# Altium footprint library Fake_ACS_Board_Footprints.PcbLib: 14 footprints
Each footprint in its own frame and in the unit in brackets; x right, y up, seen from the top. Pads: shape width x height; smd on the part's side, far side on the other; paste and mask are expansions set on the pad; w line width, h text height; cw(c..) or ccw(c..) is an arc to the next point about the centre after c.
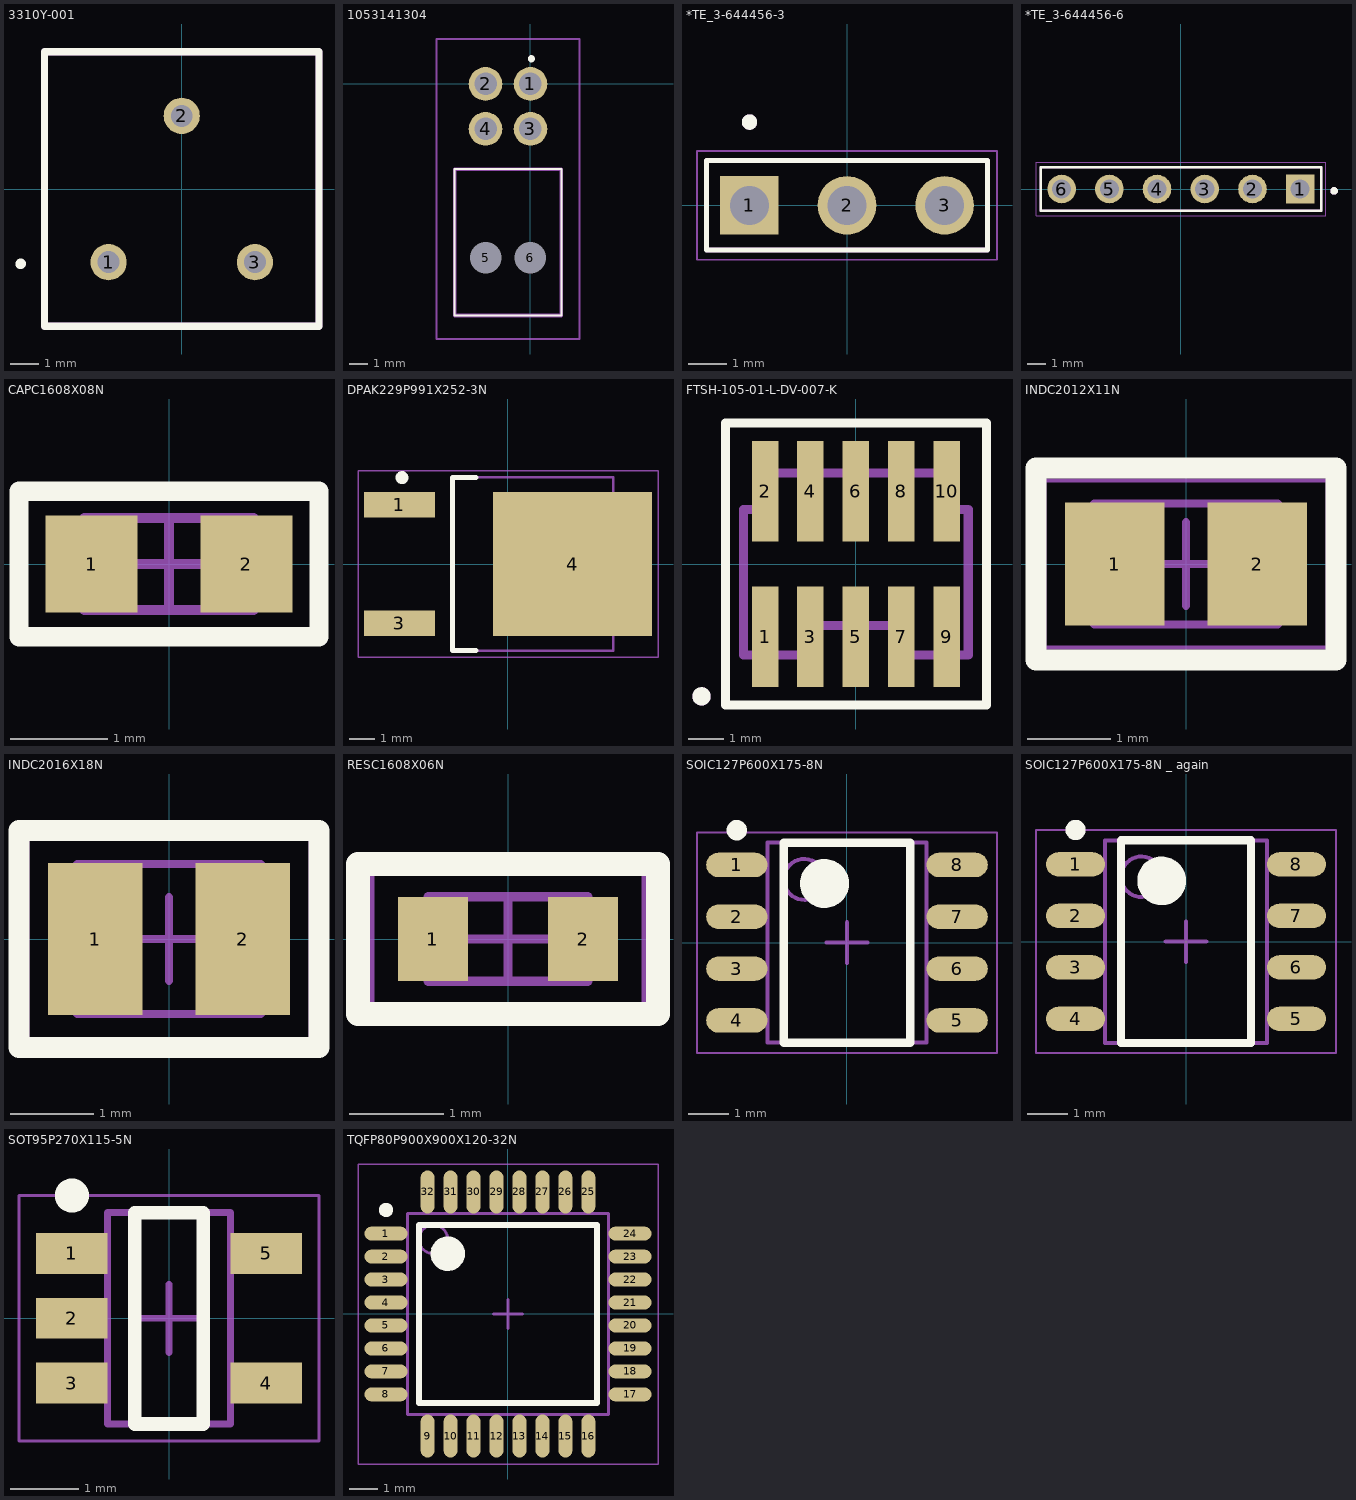
[diagram p0: the footprints below, top view; thin cyan lines are the x and y axes]

## 3310Y-001 [mm]
pads (3):
  round 1.26 hole 0.76: 1(-2.54,-2.54) 2(0,2.54) 3(2.54,-2.54)
Top Overlay:
  circle w0.25: c-5.592,-2.598 r0.058
  lines w0.25: -4.765,-4.765 4.765,-4.765 4.765,4.765 -4.765,4.765 -4.765,-4.765
Mechanical 13:
  lines w0.25: -4.765,-4.765 -4.765,4.765 4.765,4.765 4.765,-4.765 -4.765,-4.765
3D body "3310Y-001-104L.stp": height 16.8, standoff -6.38, extent -4.793,-5.086 4.733,4.439

## 1053141304 [mm]
pads (6):
  round 1.875 hole 1.25: 1(0,0) 2(-2.5,0) 3(0,-2.5) 4(-2.5,-2.5)
  round 0.875 hole 1.75: 5(-2.5,-9.68) 6(0,-9.68)
Top Overlay:
  lines w0.1: -4.22,-12.88 1.72,-12.88 1.72,-4.74 0.235,-4.74 -2.735,-4.74 -4.22,-4.74 -4.22,-12.88
  lines w0.2: -0.05,1.4 cw(c0.05,1.4) 0.15,1.4 cw(c0.05,1.4) -0.05,1.4
Mechanical 13:
  lines w0.2: -4.22,-12.88 1.72,-12.88 1.72,-4.74 -4.22,-4.74 -4.22,-12.88
Mechanical 15:
  lines w0.1: -5.22,-14.19 2.72,-14.19 2.72,2.5 -5.22,2.5 -5.22,-14.19
3D body "1053141304.stp": height 9.35, standoff -2.99, extent -4.24,-14.326 1.7,0.332

## *TE_3-644456-3 [mil]
pads (3):
  rect 60x60 hole 40: 1(-100,0)
  round 60 hole 40: 2(0,0) 3(100,0)
Top Overlay:
  circle w7.87: c-100,85.35 r3.94
  lines w5: -143.98,-45.98 -143.98,45.98 143.98,45.98 143.98,-45.98 -143.98,-45.98
Mechanical 4:
  circle w7.87: c-100,85.35 r3.94
  circle w7.87: c-100,85.35 r3.94
  lines w5: -143.98,-45.98 -143.98,45.98 ; -143.98,-45.98 143.98,-45.98 ; -143.98,-45.98 -143.98,45.98 ; -143.98,-45.98 143.98,-45.98 ; -143.98,45.98 143.98,45.98 ; -143.98,45.98 143.98,45.98 ; 143.98,-45.98 143.98,45.98 ; 143.98,-45.98 143.98,45.98
Mechanical 16:
  lines w1.97: -153.82,-55.83 -153.82,55.83 153.82,55.83 153.82,-55.83 -153.82,-55.83
3D body "c-3-644456-3-j-3d.stp": height 395, standoff -110, extent -144.09,-46 144.1,46

## *TE_3-644456-6 [mil]
pads (6):
  rect 60x60 hole 40: 1(250,0)
  round 60 hole 40: 2(150,0) 3(50,0) 4(-50,0) 5(-150,0) 6(-250,0)
Top Overlay:
  circle w7.87: c321.26,-4.02 r3.94
  lines w5: -293.98,-45.98 -293.98,45.98 293.98,45.98 293.98,-45.98 -293.98,-45.98
Mechanical 4:
  circle w7.87: c321.26,-4.02 r3.94
  circle w7.87: c321.26,-4.02 r3.94
  lines w5: -293.98,-45.98 -293.98,45.98 ; -293.98,-45.98 293.98,-45.98 ; -293.98,-45.98 -293.98,45.98 ; -293.98,-45.98 293.98,-45.98 ; -293.98,45.98 293.98,45.98 ; -293.98,45.98 293.98,45.98 ; 293.98,-45.98 293.98,45.98 ; 293.98,-45.98 293.98,45.98
Mechanical 16:
  lines w1.97: -303.82,-55.83 -303.82,55.83 303.82,55.83 303.82,-55.83 -303.82,-55.83
3D body: height 110, standoff -395, extent -41.34,177.17 -41.34,177.17
3D body "c-3-644456-6-j-3d.stp": height 395, standoff -110, extent -293.31,-48.36 294.89,43.64

## CAPC1608X08N [mm] "Chip Capacitor, 2-Leads, Body 1.60x0.80mm, IPC Medium Density"
height 0.8
pads (2):
  rect 0.95x1 smd: 1(-0.8,0) 2(0.8,0)
Top Overlay:
  lines w0.2: -1.55,-0.75 1.55,-0.75 1.55,0.75 -1.55,0.75 -1.55,-0.75
Top Assembly:
  lines w0.1: -0.875,-0.475 0.875,-0.475 0.875,0.475 -0.875,0.475 -0.875,-0.475
Mechanical 15:
  lines w0.05: -1.55,-0.75 1.55,-0.75 1.55,0.75 -1.55,0.75 -1.55,-0.75
  lines w0.1: -0.475,0 0.475,0 ; 0,-0.475 0,0.475
3D body: height 0.8, standoff 0, extent 0.495,-0.475 0.875,0.475
3D body: height 0.8, standoff 0, extent -0.875,-0.475 -0.495,0.475
3D body: height 0.8, standoff 0, extent -0.495,-0.475 0.495,0.475

## DPAK229P991X252-3N [mm] "D-PAK, 3-Pads, Body 6.21x6.71mm (max), IPC Medium Density"
height 2.52
pads (3):
  rect 2.75x1 smd: 1(-4.2,2.29) 3(-4.2,-2.29)
  rect 6.15x5.55 smd: 4(2.5,0)
Top Overlay:
  circle w0.25: c-4.1,3.34 r0.125
  lines w0.2: -1.25,-3.35 -2.15,-3.35 -2.15,3.35 -1.25,3.35
Top Assembly:
  lines w0.1: -2.15,-3.35 -2.15,3.35 4.07,3.35 4.07,-3.35 -2.15,-3.35
Mechanical 15:
  lines w0.05: -5.8,-3.6 -5.8,3.6 5.8,3.6 5.8,-3.6 -5.8,-3.6
  lines w0.1: -0.5,0 0.5,0 ; 0,-0.5 0,0.5
3D body: height 2.52, standoff 0.46, extent -2.15,-3.35 4.07,3.35

## FTSH-105-01-L-DV-007-K [mm]
pads (10):
  rect 0.74x2.8 smd paste-0.076 mask+0.085: 1(-2.54,-2.03)
  rect 0.74x2.8 smd paste-0.076 mask+0.076: 2(-2.54,2.03) 3(-1.27,-2.03) 4(-1.27,2.03) 5(0,-2.03) 6(0,2.03) 7(1.27,-2.03) 8(1.27,2.03) 9(2.54,-2.03) 10(2.54,2.03)
Top Overlay:
  circle w0.254: c-4.313,-3.696 r0.127
  lines w0.254: -3.645,-3.937 -3.645,3.937 3.645,3.937 3.645,-3.937 -3.645,-3.937
Top Assembly:
  circle w0.254: c-4.313,-3.7 r0.127
  lines w0.254: -3.137,-2.54 -1.079,-2.54 -1.079,-1.714 1.079,-1.714 1.079,-2.54 3.137,-2.54 3.137,1.524 2.54,1.524 2.54,2.54 -2.54,2.54 -2.54,1.524 -3.137,1.524 -3.137,-2.54
3D body "FTSH-105-01-L-DV-007-K.stp": height 6.11, standoff -0.01, extent -3.175,-2.921 3.175,2.921

## INDC2012X11N [mm] "Chip Inductor, 2-Leads, Body 2.00x1.25mm, IPC Medium Density"
height 1.1
pads (2):
  rect 1.19x1.47 smd: 1(-0.855,0) 2(0.855,0)
Top Overlay:
  lines w0.254: -1.8,-1.15 1.8,-1.15 1.8,1.15 -1.8,1.15 -1.8,-1.15
Top Assembly:
  lines w0.1: -1.1,-0.725 -1.1,0.725 1.1,0.725 1.1,-0.725 -1.1,-0.725
Mechanical 15:
  lines w0.05: -1.7,-1 -1.7,1 1.7,1 1.7,-1 -1.7,-1
  lines w0.1: -0.5,0 0.5,0 ; 0,-0.5 0,0.5
3D body: height 1.1, standoff 0, extent -0.6,-0.725 0.6,0.725
3D body: height 1.1, standoff 0, extent -1.1,-0.725 -0.6,0.725
3D body: height 1.1, standoff 0, extent 0.6,-0.725 1.1,0.725

## INDC2016X18N [mm] "Chip Inductor, 2-Leads, Body 2.00x1.60mm, IPC Medium Density"
height 1.8
pads (2):
  rect 1.13x1.82 smd: 1(-0.885,0) 2(0.885,0)
Top Overlay:
  lines w0.254: -1.8,-1.3 1.8,-1.3 1.8,1.3 -1.8,1.3 -1.8,-1.3
Top Assembly:
  lines w0.1: -1.1,-0.9 1.1,-0.9 1.1,0.9 -1.1,0.9 -1.1,-0.9
Mechanical 15:
  lines w0.05: -1.7,-1.2 1.7,-1.2 1.7,1.2 -1.7,1.2 -1.7,-1.2
  lines w0.1: -0.5,0 0.5,0 ; 0,-0.5 0,0.5
3D body: height 1.8, standoff 0, extent 0.6,-0.9 1.1,0.9
3D body: height 1.8, standoff 0, extent -1.1,-0.9 -0.6,0.9
3D body: height 1.8, standoff 0, extent -0.6,-0.9 0.6,0.9

## RESC1608X06N [mm] "Chip Resistor, 2-Leads, Body 1.60x0.80mm, IPC Medium Density"
height 0.55
pads (2):
  rect 0.75x0.9 smd: 1(-0.8,0) 2(0.8,0)
Top Overlay:
  lines w0.254: -1.6,-0.8 1.6,-0.8 1.6,0.8 -1.6,0.8 -1.6,-0.8
Top Assembly:
  lines w0.1: -0.85,-0.45 0.85,-0.45 0.85,0.45 -0.85,0.45 -0.85,-0.45
Mechanical 15:
  lines w0.05: -1.45,-0.7 1.45,-0.7 1.45,0.7 -1.45,0.7 -1.45,-0.7
  lines w0.1: -0.45,0 0.45,0 ; 0,-0.45 0,0.45
3D body: height 0.55, standoff 0, extent 0.55,-0.45 0.85,0.45
3D body: height 0.55, standoff 0, extent -0.85,-0.45 -0.55,0.45
3D body: height 0.55, standoff 0, extent -0.55,-0.45 0.55,0.45

## SOIC127P600X175-8N [mm] "SOIC, 8-Leads, Body 4.90x3.90mm, Pitch 1.27mm, IPC Medium Density"
height 1.75
pads (8):
  oval 1.5x0.6 smd: 1(-2.7,1.905) 2(-2.7,0.635) 3(-2.7,-0.635) 4(-2.7,-1.905) 5(2.7,-1.905) 6(2.7,-0.635) 7(2.7,0.635) 8(2.7,1.905)
Top Overlay:
  circle w0.25: c-2.7,2.755 r0.125
  circle w0.6: c-0.55,1.45 r0.3
  lines w0.2: -1.55,-2.45 -1.55,2.45 1.55,2.45 1.55,-2.45 -1.55,-2.45
Mechanical 13:
  circle w0.1: c-1.05,1.55 r0.5
  lines w0.1: -1.95,-2.45 -1.95,2.45 1.95,2.45 1.95,-2.45 -1.95,-2.45
Mechanical 15:
  lines w0.05: -3.675,-2.7 -3.675,2.7 3.675,2.7 3.675,-2.7 -3.675,-2.7
  lines w0.1: -0.5,0 0.5,0 ; 0,-0.5 0,0.5
3D body: height 1.75, standoff 0.1, extent -1.95,-2.45 1.95,2.45

## SOIC127P600X175-8N _ again [mm] "SOIC, 8-Leads, Body 4.91x3.90mm, Pitch 1.27mm, IPC Medium Density"
height 1.75
pads (8):
  oval 1.45x0.6 smd: 1(-2.725,1.905) 2(-2.725,0.635) 3(-2.725,-0.635) 4(-2.725,-1.905) 5(2.725,-1.905) 6(2.725,-0.635) 7(2.725,0.635) 8(2.725,1.905)
Top Overlay:
  circle w0.25: c-2.725,2.755 r0.125
  circle w0.6: c-0.6,1.5 r0.3
  lines w0.2: -1.6,-2.5 -1.6,2.5 1.6,2.5 1.6,-2.5 -1.6,-2.5
Top Assembly:
  circle w0.1: c-1.1,1.6 r0.5
  lines w0.1: -2,-2.5 -2,2.5 2,2.5 2,-2.5 -2,-2.5
Mechanical 15:
  lines w0.05: -3.7,-2.75 -3.7,2.75 3.7,2.75 3.7,-2.75 -3.7,-2.75
  lines w0.1: -0.5,0 0.5,0 ; 0,-0.5 0,0.5
3D body: height 1.75, standoff 0.1, extent -2,-2.5 2,2.5

## SOT95P270X115-5N [mm] "SOT23, 5-Leads, Body 2.90x2.70mm, Pitch 0.95mm, IPC Medium Density"
height 1.15
pads (5):
  rect 1.05x0.6 smd mask+0.075: 1(-1.425,0.95) 2(-1.425,0) 3(-1.425,-0.95) 4(1.425,-0.95) 5(1.425,0.95)
Top Overlay:
  circle w0.25: c-1.425,1.8 r0.125
  lines w0.2: -0.5,-1.55 0.5,-1.55 0.5,1.55 -0.5,1.55 -0.5,-1.55
Top Assembly:
  lines w0.1: -0.9,-1.55 -0.9,1.55 0.9,1.55 0.9,-1.55 -0.9,-1.55
Mechanical 15:
  lines w0.05: -2.2,-1.8 -2.2,1.8 2.2,1.8 2.2,-1.8 -2.2,-1.8
  lines w0.1: -0.5,0 0.5,0 ; 0,-0.5 0,0.5
3D body: height 1.15, standoff 0, extent -0.9,-1.55 0.9,1.55

## TQFP80P900X900X120-32N [mm] "TQFP, 32-Leads, Body 7.00x7.00mm, Pitch 0.80mm, IPC Medium Density"
height 1.2
pads (32):
  oval 1.5x0.49 smd mask+0.075: 1(-4.25,2.8) 2(-4.25,2) 3(-4.25,1.2) 4(-4.25,0.4) 5(-4.25,-0.4) 6(-4.25,-1.2) 7(-4.25,-2) 8(-4.25,-2.8) 17(4.25,-2.8) 18(4.25,-2) 19(4.25,-1.2) 20(4.25,-0.4) 21(4.25,0.4) 22(4.25,1.2) 23(4.25,2) 24(4.25,2.8)
  oval 0.49x1.5 smd mask+0.075: 9(-2.8,-4.25) 10(-2,-4.25) 11(-1.2,-4.25) 12(-0.4,-4.25) 13(0.4,-4.25) 14(1.2,-4.25) 15(2,-4.25) 16(2.8,-4.25) 25(2.8,4.25) 26(2,4.25) 27(1.2,4.25) 28(0.4,4.25) 29(-0.4,4.25) 30(-1.2,4.25) 31(-2,4.25) 32(-2.8,4.25)
Top Overlay:
  circle w0.6: c-2.1,2.1 r0.3
  circle w0.25: c-4.25,3.625 r0.125
  lines w0.2: -3.1,-3.1 3.1,-3.1 3.1,3.1 -3.1,3.1 -3.1,-3.1
Mechanical 13:
  circle w0.1: c-2.6,2.6 r0.5
  lines w0.1: -3.5,-3.5 3.5,-3.5 3.5,3.5 -3.5,3.5 -3.5,-3.5
Mechanical 15:
  lines w0.05: -5.225,-5.225 5.225,-5.225 5.225,5.225 -5.225,5.225 -5.225,-5.225
  lines w0.1: -0.5,0 0.5,0 ; 0,-0.5 0,0.5
3D body: height 1.2, standoff 0.05, extent -3.5,-3.5 3.5,3.5